# Altium footprint library DDR4_UDIMM.PcbLib: 1 footprints
Each footprint in its own frame and in the unit in brackets; x right, y up, seen from the top. Pads: shape width x height; smd on the part's side, far side on the other; paste and mask are expansions set on the pad; w line width, h text height; cw(c..) or ccw(c..) is an arc to the next point about the centre after c.
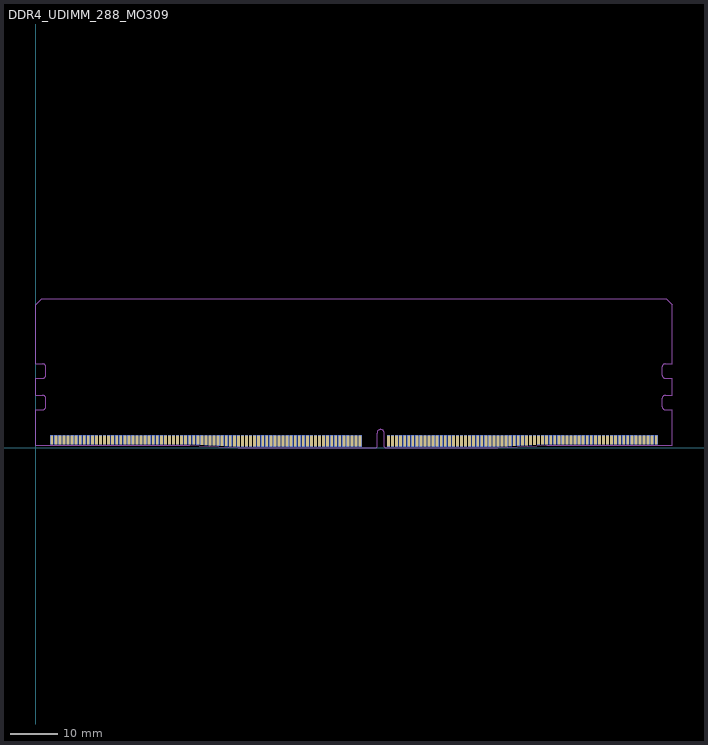
[diagram p0: the footprint, top view; thin cyan lines are the x and y axes]

## DDR4_UDIMM_288_MO309 [mm]
pads (288):
  rect 0.6x1.85 smd paste-1.5: 1(3.35,1.675) 2(4.2,1.675) 3(5.05,1.675) 4(5.9,1.675) 5(6.75,1.675) 6(7.6,1.675) 7(8.45,1.675) 8(9.3,1.675) 9(10.15,1.675) 10(11,1.675) 11(11.85,1.675) 12(12.7,1.675) 13(13.55,1.675) 14(14.4,1.675) 15(15.25,1.675) 16(16.1,1.675) 17(16.95,1.675) 18(17.8,1.675) 19(18.65,1.675) 20(19.5,1.675) 21(20.35,1.675) 22(21.2,1.675) 23(22.05,1.675) 24(22.9,1.675) 25(23.75,1.675) 26(24.6,1.675) 27(25.45,1.675) 28(26.3,1.675) 29(27.15,1.675) 30(28,1.675) 31(28.85,1.675) 32(29.7,1.675) 33(30.55,1.675) 34(31.4,1.675) 35(32.25,1.675) 117(107.05,1.675) 118(107.9,1.675) 119(108.75,1.675) 120(109.6,1.675) 121(110.45,1.675) 122(111.3,1.675) 123(112.15,1.675) 124(113,1.675) 125(113.85,1.675) 126(114.7,1.675) 127(115.55,1.675) 128(116.4,1.675) 129(117.25,1.675) 130(118.1,1.675) 131(118.95,1.675) 132(119.8,1.675) 133(120.65,1.675) 134(121.5,1.675) 135(122.35,1.675) 136(123.2,1.675) 137(124.05,1.675) 138(124.9,1.675) 139(125.75,1.675) 140(126.6,1.675) 141(127.45,1.675) 142(128.3,1.675) 143(129.15,1.675) 144(130,1.675)
  rect 0.6x1.892 smd paste-1.5: 36(33.1,1.654) 116(106.2,1.654)
  rect 0.6x1.933 smd paste-1.5: 37(33.95,1.633) 115(105.35,1.633)
  rect 0.6x1.975 smd paste-1.5: 38(34.8,1.613) 114(104.5,1.613)
  rect 0.6x2.017 smd paste-1.5: 39(35.65,1.592) 113(103.65,1.592)
  rect 0.6x2.058 smd paste-1.5: 40(36.5,1.571) 112(102.8,1.571)
  rect 0.6x2.1 smd paste-1.5: 41(37.35,1.55) 111(101.95,1.55)
  rect 0.6x2.142 smd paste-1.5: 42(38.2,1.529) 110(101.1,1.529)
  rect 0.6x2.183 smd paste-1.5: 43(39.05,1.508) 109(100.25,1.508)
  rect 0.6x2.225 smd paste-1.5: 44(39.9,1.488) 108(99.4,1.488)
  rect 0.6x2.267 smd paste-1.5: 45(40.75,1.467) 107(98.55,1.467)
  rect 0.6x2.308 smd paste-1.5: 46(41.6,1.446) 106(97.7,1.446)
  rect 0.6x2.35 smd paste-1.5: 47(42.45,1.425) 48(43.3,1.425) 49(44.15,1.425) 50(45,1.425) 51(45.85,1.425) 52(46.7,1.425) 53(47.55,1.425) 54(48.4,1.425) 55(49.25,1.425) 56(50.1,1.425) 57(50.95,1.425) 58(51.8,1.425) 59(52.65,1.425) 60(53.5,1.425) 61(54.35,1.425) 62(55.2,1.425) 63(56.05,1.425) 64(56.9,1.425) 65(57.75,1.425) 66(58.6,1.425) 67(59.45,1.425) 68(60.3,1.425) 69(61.15,1.425) 70(62,1.425) 71(62.85,1.425) 72(63.7,1.425) 73(64.55,1.425) 74(65.4,1.425) 75(66.25,1.425) 76(67.1,1.425) 77(67.95,1.425) 78(73.9,1.425) 79(74.75,1.425) 80(75.6,1.425) 81(76.45,1.425) 82(77.3,1.425) 83(78.15,1.425) 84(79,1.425) 85(79.85,1.425) 86(80.7,1.425) 87(81.55,1.425) 88(82.4,1.425) 89(83.25,1.425) 90(84.1,1.425) 91(84.95,1.425) 92(85.8,1.425) 93(86.65,1.425) 94(87.5,1.425) 95(88.35,1.425) 96(89.2,1.425) 97(90.05,1.425) 98(90.9,1.425) 99(91.75,1.425) 100(92.6,1.425) 101(93.45,1.425) 102(94.3,1.425) 103(95.15,1.425) 104(96,1.425) 105(96.85,1.425)
  rect 0.6x1.85 smd far side paste-1.5: 145(3.35,1.675) 146(4.2,1.675) 147(5.05,1.675) 148(5.9,1.675) 149(6.75,1.675) 150(7.6,1.675) 151(8.45,1.675) 152(9.3,1.675) 153(10.15,1.675) 154(11,1.675) 155(11.85,1.675) 156(12.7,1.675) 157(13.55,1.675) 158(14.4,1.675) 159(15.25,1.675) 160(16.1,1.675) 161(16.95,1.675) 162(17.8,1.675) 163(18.65,1.675) 164(19.5,1.675) 165(20.35,1.675) 166(21.2,1.675) 167(22.05,1.675) 168(22.9,1.675) 169(23.75,1.675) 170(24.6,1.675) 171(25.45,1.675) 172(26.3,1.675) 173(27.15,1.675) 174(28,1.675) 175(28.85,1.675) 176(29.7,1.675) 177(30.55,1.675) 178(31.4,1.675) 179(32.25,1.675) 261(107.05,1.675) 262(107.9,1.675) 263(108.75,1.675) 264(109.6,1.675) 265(110.45,1.675) 266(111.3,1.675) 267(112.15,1.675) 268(113,1.675) 269(113.85,1.675) 270(114.7,1.675) 271(115.55,1.675) 272(116.4,1.675) 273(117.25,1.675) 274(118.1,1.675) 275(118.95,1.675) 276(119.8,1.675) 277(120.65,1.675) 278(121.5,1.675) 279(122.35,1.675) 280(123.2,1.675) 281(124.05,1.675) 282(124.9,1.675) 283(125.75,1.675) 284(126.6,1.675) 285(127.45,1.675) 286(128.3,1.675) 287(129.15,1.675) 288(130,1.675)
  rect 0.6x1.892 smd far side paste-1.5: 180(33.1,1.654) 260(106.2,1.654)
  rect 0.6x1.933 smd far side paste-1.5: 181(33.95,1.633) 259(105.35,1.633)
  rect 0.6x1.975 smd far side paste-1.5: 182(34.8,1.613) 258(104.5,1.613)
  rect 0.6x2.017 smd far side paste-1.5: 183(35.65,1.592) 257(103.65,1.592)
  rect 0.6x2.058 smd far side paste-1.5: 184(36.5,1.571) 256(102.8,1.571)
  rect 0.6x2.1 smd far side paste-1.5: 185(37.35,1.55) 255(101.95,1.55)
  rect 0.6x2.142 smd far side paste-1.5: 186(38.2,1.529) 254(101.1,1.529)
  rect 0.6x2.183 smd far side paste-1.5: 187(39.05,1.508) 253(100.25,1.508)
  rect 0.6x2.225 smd far side paste-1.5: 188(39.9,1.488) 252(99.4,1.488)
  rect 0.6x2.267 smd far side paste-1.5: 189(40.75,1.467) 251(98.55,1.467)
  rect 0.6x2.308 smd far side paste-1.5: 190(41.6,1.446) 250(97.7,1.446)
  rect 0.6x2.35 smd far side paste-1.5: 191(42.45,1.425) 192(43.3,1.425) 193(44.15,1.425) 194(45,1.425) 195(45.85,1.425) 196(46.7,1.425) 197(47.55,1.425) 198(48.4,1.425) 199(49.25,1.425) 200(50.1,1.425) 201(50.95,1.425) 202(51.8,1.425) 203(52.65,1.425) 204(53.5,1.425) 205(54.35,1.425) 206(55.2,1.425) 207(56.05,1.425) 208(56.9,1.425) 209(57.75,1.425) 210(58.6,1.425) 211(59.45,1.425) 212(60.3,1.425) 213(61.15,1.425) 214(62,1.425) 215(62.85,1.425) 216(63.7,1.425) 217(64.55,1.425) 218(65.4,1.425) 219(66.25,1.425) 220(67.1,1.425) 221(67.95,1.425) 222(73.9,1.425) 223(74.75,1.425) 224(75.6,1.425) 225(76.45,1.425) 226(77.3,1.425) 227(78.15,1.425) 228(79,1.425) 229(79.85,1.425) 230(80.7,1.425) 231(81.55,1.425) 232(82.4,1.425) 233(83.25,1.425) 234(84.1,1.425) 235(84.95,1.425) 236(85.8,1.425) 237(86.65,1.425) 238(87.5,1.425) 239(88.35,1.425) 240(89.2,1.425) 241(90.05,1.425) 242(90.9,1.425) 243(91.75,1.425) 244(92.6,1.425) 245(93.45,1.425) 246(94.3,1.425) 247(95.15,1.425) 248(96,1.425) 249(96.85,1.425)
Top Solder:
  rectangle: 73.4,-0.3 130.5,2.75
  rectangle: 2.85,-0.3 68.45,2.75
Bottom Solder:
  rectangle: 73.4,-0.3 130.5,2.75
  rectangle: 2.85,-0.3 68.45,2.75
Mechanical 1:
  lines w0.1: 0,0.5 0,8 1.45,8 ccw(c1.45,8.65) 2.1,8.65 2.1,10.35 ccw(c1.45,10.35) 1.45,11 0,11 0,14.6 1.45,14.6 ccw(c1.45,15.25) 2.1,15.25 2.1,16.95 ccw(c1.45,16.95) 1.45,17.6 0,17.6 0,30 1.25,31.25 132.1,31.25 133.35,30 133.35,17.6 131.9,17.6 ccw(c131.9,16.95) 131.25,16.95 131.25,15.25 ccw(c131.9,15.25) 131.9,14.6 133.35,14.6 133.35,11 131.9,11 ccw(c131.9,10.35) 131.25,10.35 131.25,8.65 ccw(c131.9,8.65) 131.9,8 133.35,8 133.35,0.5 107.05,0.5 96.85,0 73.2,0 73,0.2 73,3.1 ccw(c72.25,3.1) 71.5,3.1 71.5,0.2 71.3,0 42.45,0 32.25,0.5 0,0.5